# EAGLE library part SN74LS156_DEMULTIPLEXER (library RS232Multiplexer)
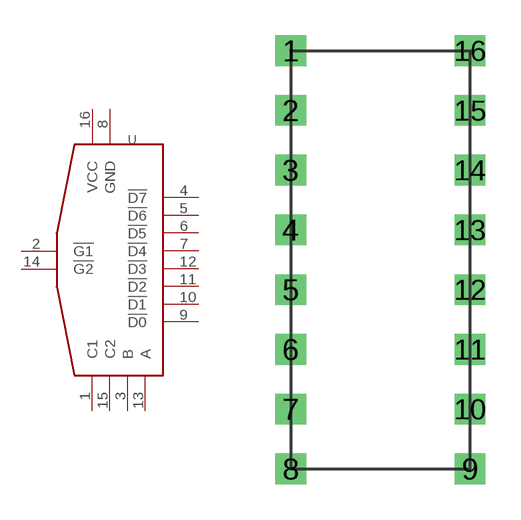
[diagram p2: symbol with the pads of GENERIC16; footprint GENERIC16]

Designator prefix -

## SN74LS156_DEMULTIPLEXER  [GENERIC16]
1  C1
2  !G1
3  B
4  !D7
5  !D6
6  !D5
7  !D4
8  GND
9  !D0
10  !D1
11  !D2
12  !D3
13  A
14  !G2
15  C2
16  VCC

## Footprint GENERIC16 (pad centres in mm)
drill 0.8 square: 1 0,17.78; 2 0,15.24; 3 0,12.7; 4 0,10.16; 5 0,7.62; 6 0,5.08; 7 0,2.54; 8 0,0; 9 7.62,0; 10 7.62,2.54; 11 7.62,5.08; 12 7.62,7.62; 13 7.62,10.16; 14 7.62,12.7; 15 7.62,15.24; 16 7.62,17.78